# Altium footprint library PL04_22F.PcbLib: 63 footprints (part 3 of 4)
Each footprint in its own frame and in the unit in brackets; x right, y up, seen from the top. Pads: shape width x height; smd on the part's side, far side on the other; paste and mask are expansions set on the pad; w line width, h text height; cw(c..) or ccw(c..) is an arc to the next point about the centre after c.
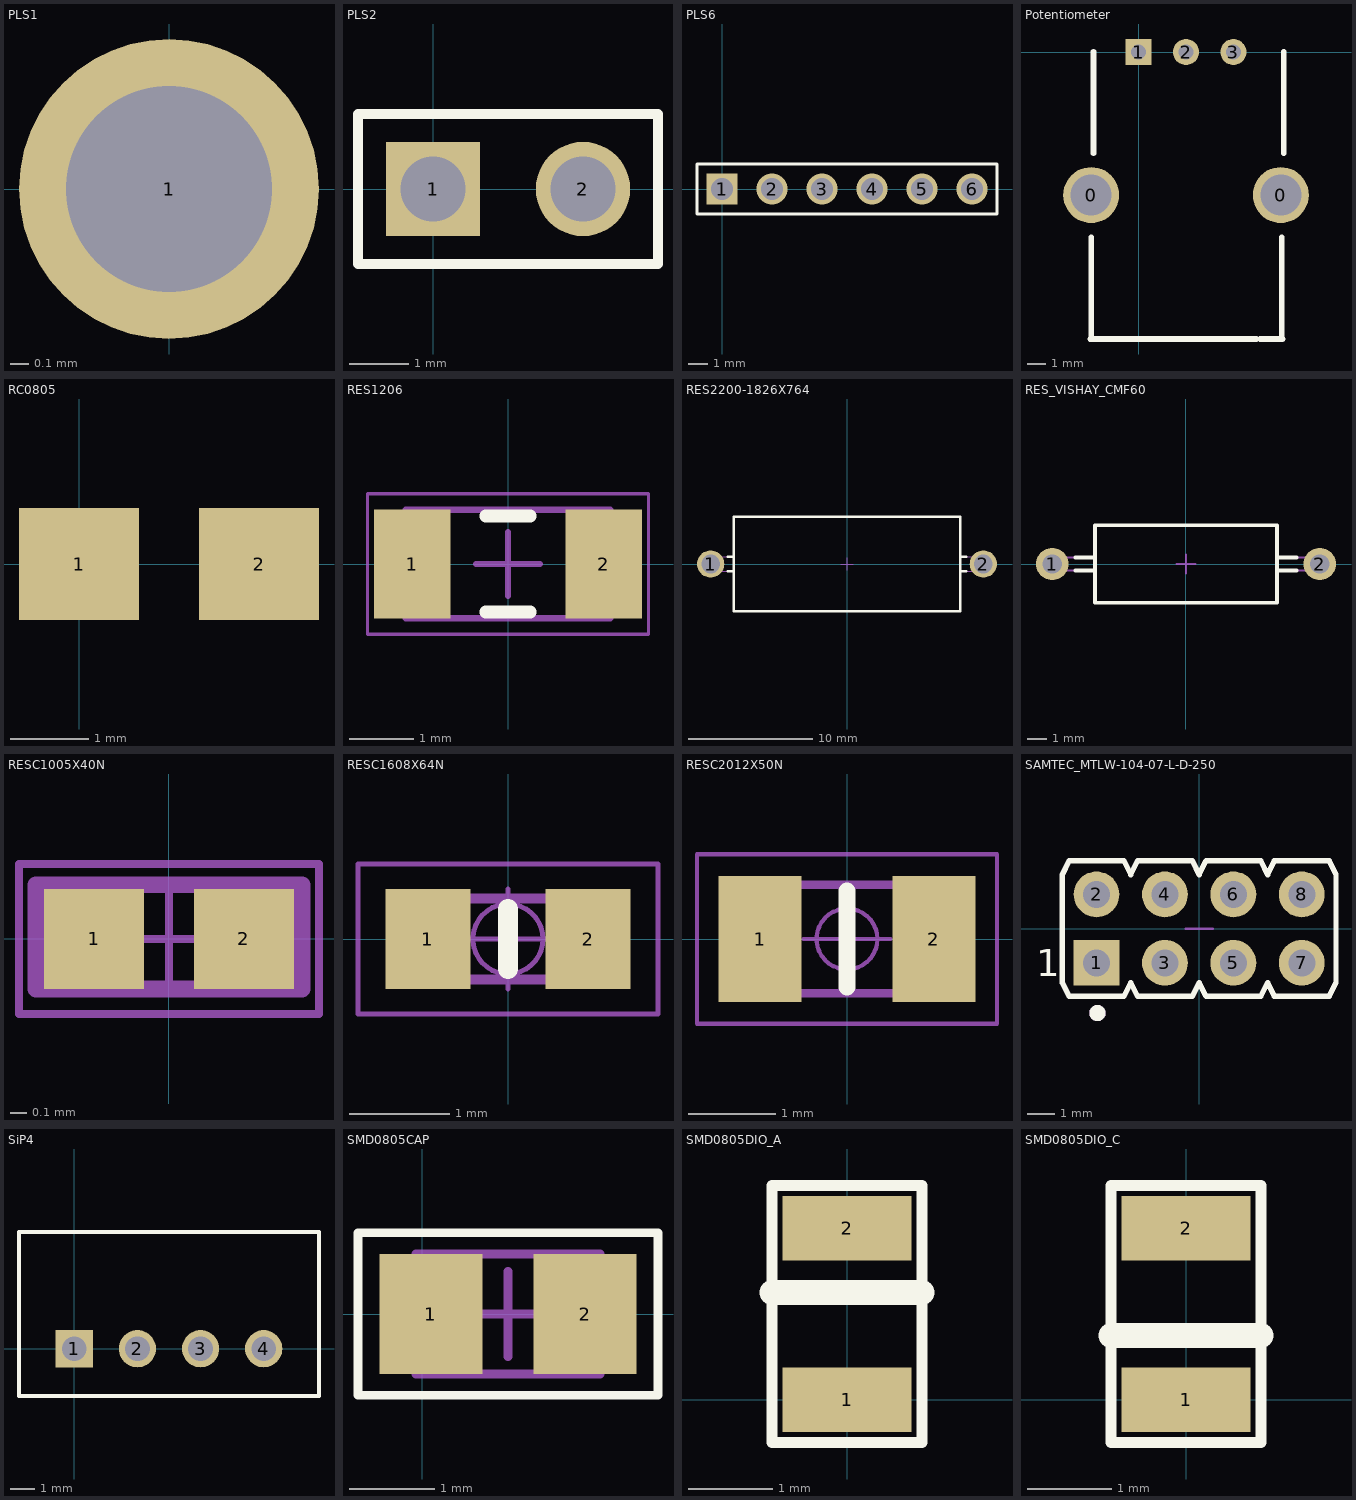
[diagram p2: the footprints below, top view; thin cyan lines are the x and y axes]

## PLS1 [mm]
pads (1):
  round 1.6 hole 1.1: 1(0,0)

## PLS2 [mm]
height 9.2
pads (2):
  rect 1.6x1.6 hole 1.1: 1(0,0)
  round 1.6 hole 1.1: 2(2.54,0)
Top Overlay:
  lines w0.173: -1.27,-1.27 -1.27,1.27 3.81,1.27 3.81,-1.27 -1.27,-1.27
3D body "SAMTEC_MTLW-102-07-L-S-250.stp": height 7.87, standoff -3.05, extent -1.27,-1.244 3.81,1.245

## PLS6 [mm]
height 9.2
pads (6):
  rect 1.6x1.6 hole 1.1 unplated: 1(0,0)
  round 1.6 hole 1.1: 2(2.54,0) 3(5.08,0) 4(7.62,0) 5(10.16,0) 6(12.7,0)
Top Overlay:
  lines w0.173: -1.27,-1.27 -1.27,1.27 13.97,1.27 13.97,-1.27 -1.27,-1.27
3D body "SAMTEC_MTLW-103-07-L-S-250.stp": height 7.87, standoff -3.05, extent -1.27,-1.269 6.35,1.22
3D body "SAMTEC_MTLW-103-07-L-S-250.stp": height 7.87, standoff -3.05, extent 6.35,-1.269 13.97,1.22

## Potentiometer [mm]
height 1
pads (5):
  round 3 hole 2.2 unplated: 0(-2.54,-7.66) 0(7.62,-7.66)
  rect 1.4x1.4 hole 0.8: 1(0,0)
  round 1.4 hole 0.8: 2(2.54,0) 3(5.08,0)
Top Overlay:
  lines w0.3: -2.58,-15.375 -1.38,-15.375 6.31,-15.375 ; -2.53,-15.375 -2.53,-9.925 ; -2.415,-5.425 -2.415,0.025 ; 6.51,-15.375 7.71,-15.375 ; 7.66,-15.375 7.66,-9.925 ; 7.775,-5.425 7.775,0.025

## RC0805 [mil]
pads (2):
  rect 60x56 smd: 1(0,0) 2(90,0)
3D body "CAPC2012X140N.stp": height 51.18, standoff 0, extent 3.67,-26.57 86.34,26.58

## RES1206 [mm] "Chip Resistor, 2-Leads, Body 3,10x1,60mm, IPC Medium Density"
height 0.6
pads (2):
  rect 1.2x1.7 smd: 1(-1.5,0) 2(1.5,0)
Top Overlay:
  lines w0.2: -0.35,-0.75 0.35,-0.75 ; -0.35,0.75 0.35,0.75
Mechanical 13:
  lines w0.1: -1.6,-0.85 1.6,-0.85 1.6,0.85 -1.6,0.85 -1.6,-0.85
Mechanical 15:
  lines w0.05: -2.2,-1.1 2.2,-1.1 2.2,1.1 -2.2,1.1 -2.2,-1.1
  lines w0.1: -0.5,0 0.5,0 ; 0,-0.5 0,0.5
3D body "RES1206.step": height 0.6, standoff 0, extent -1.6,-0.85 1.6,0.85

## RES2200-1826X764 [mm] "Resistor, Axial, Pad spacing 22mm - Body Lengh 18.26mm X Body Diameter 7.64mm"
height 7.64
pads (2):
  round 2.2 hole 1.5: 1(-11,0) 2(11,0)
Top Overlay:
  lines w0.2: -9.625,-0.6 -9.13,-0.6 ; -9.625,0.6 -9.13,0.6 ; 9.13,-0.6 9.625,-0.6 ; 9.13,0.6 9.625,0.6 ; -9.13,-3.82 9.13,-3.82 9.13,3.82 -9.13,3.82 -9.13,-3.82
Mechanical 8:
  lines w0.1: -11.5,0 -11,0 ; -11,-0.5 -11,0 ; -11,0.5 -11,0 ; -10.5,0 -11,0 ; -0.5,0 0,0 ; 0,-0.5 0,0 ; 0,0.5 0,0 ; 0.5,0 0,0 ; 10.5,0 11,0 ; 11,-0.5 11,0 ; 11,0.5 11,0 ; 11.5,0 11,0
Mechanical 14:
  lines w0.1: -9.13,-3.82 9.13,-3.82 9.13,3.82 -9.13,3.82 -9.13,-3.82
Mechanical 15:
  lines w0.1: -9.13,-0.6 -11,-0.6 cw(c-11,0) -11,0.6 -9.13,0.6 ; 9.13,-0.6 11,-0.6 ccw(c11,0) 11,0.6 9.13,0.6
3D body "RES2200-1826X764.stp": height 7.65, standoff -3.6, extent -11.6,-3.72 11.6,3.92

## RES_VISHAY_CMF60 [mm] "Resistor, Axial, Pad spacing 13 mm - Body Lengh 8.74mm X Body Diameter 3.68mm"
height 4.06
pads (2):
  round 1.7 hole 1: 1(-7,0) 2(7,0)
Top Overlay:
  lines w0.2: -5.799,-0.345 -4.765,-0.345 ; -5.799,0.345 -4.765,0.345 ; 4.765,-0.345 5.799,-0.345 ; 4.765,0.345 5.799,0.345 ; -4.765,-2.03 4.765,-2.03 4.765,2.03 -4.765,2.03 -4.765,-2.03
Mechanical 8:
  lines w0.1: -7.5,0 -7,0 ; -7,-0.5 -7,0 ; -7,0.5 -7,0 ; -6.5,0 -7,0 ; -0.5,0 0,0 ; 0,-0.5 0,0 ; 0,0.5 0,0 ; 0.5,0 0,0 ; 6.5,0 7,0 ; 7,-0.5 7,0 ; 7,0.5 7,0 ; 7.5,0 7,0
Mechanical 14:
  lines w0.1: -4.765,-0.345 -7,-0.345 cw(c-7,0) -7,0.345 -4.765,0.345 ; 4.765,-0.345 7,-0.345 ccw(c7,0) 7,0.345 4.765,0.345 ; -4.765,-2.03 4.765,-2.03 4.765,2.03 -4.765,2.03 -4.765,-2.03
3D body "RES_VISHAY_CMF60.stp": height 4.06, standoff -3.6, extent -7.345,-2.019 7.345,2.019

## RESC1005X40N [mm] "Chip Resistor, EIA 0402, Metric 1005, Body 1.0x0.5mm, IPC Medium Density"
height 0.4
pads (2):
  rect 0.6x0.6 smd: 1(-0.45,0) 2(0.45,0)
Mechanical 14:
  lines w0.1: -0.8,-0.3 0.8,-0.3 0.8,0.325 -0.8,0.325 -0.8,-0.3
Mechanical 15:
  lines w0.05: -0.3,0 0.3,0 ; 0,-0.3 0,0.3 ; -0.9,-0.45 0.9,-0.45 0.9,0.45 -0.9,0.45 -0.9,-0.45
3D body "RESC1005X40N.stp": height 0.4, standoff 0, extent -0.525,-0.275 0.525,0.275

## RESC1608X64N [mm] "Chip Resistor, EIA 0603, Metric 1608, Body 1.6x0.8mm, IPC Medium Density"
height 0.64
pads (2):
  rect 0.85x1 smd: 1(-0.8,0) 2(0.8,0)
Top Overlay:
  lines w0.2: 0,-0.3 0,0.3
Mechanical 14:
  lines w0.1: -0.8,-0.405 -0.8,0.405 0.8,0.405 0.8,-0.405 -0.8,-0.405
Mechanical 15:
  circle w0.05: c0,0 r0.35
  lines w0.05: -0.5,0 0.5,0 ; 0,-0.5 0,0.5 ; -1.5,-0.75 -1.5,0.75 1.5,0.75 1.5,-0.75 -1.5,-0.75
3D body "RESC1608X64N.stp": height 0.64, standoff 0, extent -0.875,-0.475 0.875,0.475

## RESC2012X50N [mm] "Chip Resistor, EIA 0805, Metric 2012, Body 2.0x1.25mm, IPC Medium Density"
height 0.5
pads (2):
  rect 0.95x1.45 smd: 1(-1,0) 2(1,0)
Top Overlay:
  lines w0.2: 0,-0.55 0,0.55
Mechanical 14:
  lines w0.1: -1.025,-0.625 -1.025,0.625 1.025,0.625 1.025,-0.625 -1.025,-0.625
Mechanical 15:
  circle w0.05: c0,0 r0.35
  lines w0.05: -0.5,0 0.5,0 ; 0,-0.5 0,0.5 ; -1.725,-0.975 -1.725,0.975 1.725,0.975 1.725,-0.975 -1.725,-0.975
3D body "RESC2012X50N.stp": height 0.5, standoff 0, extent -1.1,-0.675 1.1,0.675

## SAMTEC_MTLW-104-07-L-D-250 [mm] "8 Contacts - Pitch 2.54mm - Dual Row Through Mount Straight Header (Post Lead = 6.35mm, Tail Lead 3.05mm, Insulator 1.52mm)"
height 7.87
pads (8):
  rect 1.7x1.7 hole 1: 1(-3.81,-1.27)
  round 1.7 hole 1: 2(-3.81,1.27) 3(-1.27,-1.27) 4(-1.27,1.27) 5(1.27,-1.27) 6(1.27,1.27) 7(3.81,-1.27) 8(3.81,1.27)
Top Overlay:
  circle w0.3: c-3.775,-3.135 r0.15
  lines w0.2: 5.08,-2.007 5.08,2.007 ; 5.08,-2.007 4.826,-2.515 2.794,-2.515 2.54,-2.007 2.286,-2.515 0.254,-2.515 0,-2.007 -0.254,-2.515 -2.286,-2.515 -2.54,-2.007 -2.794,-2.515 -4.826,-2.515 -5.08,-2.007 -5.08,2.007 -4.826,2.515 -2.794,2.515 -2.54,2.007 -2.286,2.515 -0.254,2.515 0,2.007 0.254,2.515 2.286,2.515 2.54,2.007 2.794,2.515 4.826,2.515 5.08,2.007 ; 5.08,-2.007 5.08,2.007
  text "1" at -6.057,-1.768 h1
Mechanical 8:
  lines w0.1: -4.31,-1.27 -3.81,-1.27 ; -4.31,1.27 -3.81,1.27 ; -3.81,-1.77 -3.81,-1.27 ; -3.81,-0.77 -3.81,-1.27 ; -3.81,0.77 -3.81,1.27 ; -3.81,1.77 -3.81,1.27 ; -3.31,-1.27 -3.81,-1.27 ; -3.31,1.27 -3.81,1.27 ; -1.77,-1.27 -1.27,-1.27 ; -1.77,1.27 -1.27,1.27 ; -1.27,-1.77 -1.27,-1.27 ; -1.27,-0.77 -1.27,-1.27 ; -1.27,0.77 -1.27,1.27 ; -1.27,1.77 -1.27,1.27 ; -0.77,-1.27 -1.27,-1.27 ; -0.77,1.27 -1.27,1.27 ; -0.5,0 0,0 0.5,0 ; 0.77,-1.27 1.27,-1.27 ; 0.77,1.27 1.27,1.27 ; 1.27,-1.77 1.27,-1.27 ; 1.27,-0.77 1.27,-1.27 ; 1.27,0.77 1.27,1.27 ; 1.27,1.77 1.27,1.27 ; 1.77,-1.27 1.27,-1.27 ; 1.77,1.27 1.27,1.27 ; 3.31,-1.27 3.81,-1.27 ; 3.31,1.27 3.81,1.27 ; 3.81,-1.77 3.81,-1.27 ; 3.81,-0.77 3.81,-1.27 ; 3.81,0.77 3.81,1.27 ; 3.81,1.77 3.81,1.27 ; 4.31,-1.27 3.81,-1.27 ; 4.31,1.27 3.81,1.27
Mechanical 14:
  circle w0.3: c-3.775,-3.135 r0.15
  lines w0.1: 5.08,-2.007 5.08,2.007 ; 5.08,-2.007 4.826,-2.515 2.794,-2.515 2.54,-2.007 2.286,-2.515 0.254,-2.515 0,-2.007 -0.254,-2.515 -2.286,-2.515 -2.54,-2.007 -2.794,-2.515 -4.826,-2.515 -5.08,-2.007 -5.08,2.007 -4.826,2.515 -2.794,2.515 -2.54,2.007 -2.286,2.515 -0.254,2.515 0,2.007 0.254,2.515 2.286,2.515 2.54,2.007 2.794,2.515 4.826,2.515 5.08,2.007 ; 5.08,-2.007 5.08,2.007 ; -4.128,-1.587 -3.493,-1.587 -3.493,-0.953 -4.128,-0.953 -4.128,-1.587 ; -4.128,0.953 -3.493,0.953 -3.493,1.587 -4.128,1.587 -4.128,0.953 ; -1.587,-1.587 -0.953,-1.587 -0.953,-0.953 -1.587,-0.953 -1.587,-1.587 ; -1.587,0.953 -0.953,0.953 -0.953,1.587 -1.587,1.587 -1.587,0.953 ; 0.953,-1.587 1.587,-1.587 1.587,-0.953 0.953,-0.953 0.953,-1.587 ; 0.953,0.953 1.587,0.953 1.587,1.587 0.953,1.587 0.953,0.953 ; 3.493,-1.587 4.128,-1.587 4.128,-0.953 3.493,-0.953 3.493,-1.587 ; 3.493,0.953 4.128,0.953 4.128,1.587 3.493,1.587 3.493,0.953
  text "1" at -6.057,-1.768 h1
3D body "SAMTEC_MTLW-104-07-L-D-250.stp": height 7.87, standoff -3.05, extent -5.08,-2.514 5.08,2.515

## SiP4 [mm]
height 1.2
pads (4):
  rect 1.5x1.5 hole 1: 1(0,0)
  round 1.5 hole 1: 2(2.54,0) 3(5.08,0) 4(7.62,0)
Top Overlay:
  lines w0.15: -2.222,-1.905 9.842,-1.905 ; -2.222,-1.841 -2.222,4.699 9.842,4.699 9.842,-1.841
3D body "DCDC_TRACO_TME24.stp": height 10.45, standoff -3.2, extent -2.065,-1.8 9.685,5.45

## SMD0805CAP [mm] "Чипконденсатор, 2.0x1.3mm"
height 0.65
pads (2):
  rect 1.2x1.4 smd: 1(0.102,0.002) 2(1.902,0.002)
Top Overlay:
  lines w0.1: -0.748,-0.948 -0.748,0.952 2.752,0.952 2.752,-0.948 -0.748,-0.948
Mechanical 13:
  lines w0.1: -0.073,-0.698 2.077,-0.698 2.077,0.702 -0.073,0.702 -0.073,-0.698
Mechanical 15:
  lines w0.1: 0.502,0.002 1.502,0.002 ; 1.002,-0.498 1.002,0.502
3D body: height 16.5, standoff 0, extent 4.03,-0.548 4.03,-0.548
3D body "CAPC2012X90N.stp": height 0.9, standoff 0, extent -0.025,-0.675 2.075,0.675
3D body: height 1.3, standoff 0, extent -1.651,-0.127 -1.651,-0.127

## SMD0805DIO_A [mil]
pads (2):
  rect 60x30 smd: 1(0,0) 2(0,80)
Top Overlay:
  lines w5: -35,-20 35,-20 35,100 -35,100 -35,-20
  lines w11.81: -35,50 35,50
3D body "LED_OSRAM_LYR976.stp": height 35.43, standoff 0, extent -26.58,-1.33 26.57,81.34

## SMD0805DIO_C [mil]
pads (2):
  rect 60x30 smd: 1(0,0) 2(0,80)
Top Overlay:
  lines w5: -35,-20 -35,100 35,100 35,-20 -35,-20
  lines w11.81: -35,30 35,30
3D body "LED_OSRAM_LYR976.stp": height 35.43, standoff 0, extent -26.58,-1.33 26.57,81.34